# EAGLE library part 2-1761465-1 (library CONNECTORs)
36 Position Female Connector PCI Express™ Gold 0.039" (1.00mm) Black
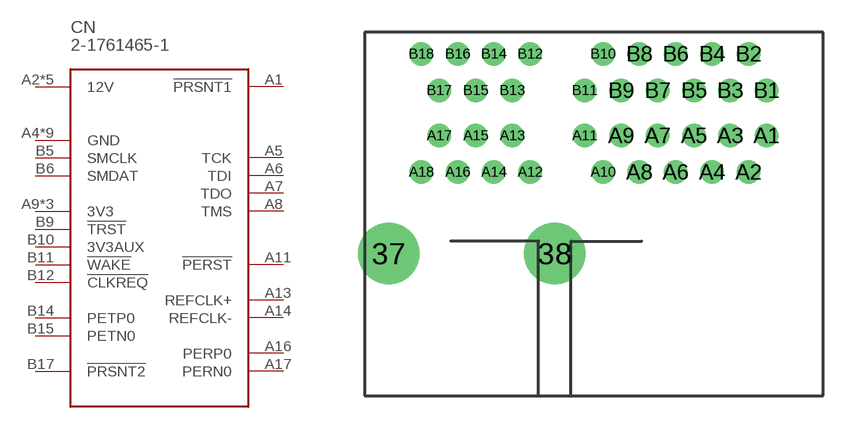
[diagram p74: symbol with the pads of CONN36_2-1761465-1_TEC; footprint CONN36_2-1761465-1_TEC]

Designator prefix CN

## 2-1761465-1 (DIGIKEY: A118393-ND; HEIGHT: 9.4; PRICE_PER: 6.58; VALUE: 2-1761465-1)  [CONN36_2-1761465-1_TEC]
A1  !PRSNT1  pas
A2  12V  pas
A3  12V  pas
A4  GND  pas
A5  TCK  pas
A6  TDI  pas
A7  TDO  pas
A8  TMS  pas
A9  3V3  pas
A10  3V3  pas
A11  !PERST  pas
A12  GND  pas
A13  REFCLK+  pas
A14  REFCLK-  pas
A15  GND  pas
A16  PERP0  pas
A17  PERN0  pas
A18  GND  pas
B1  12V  pas
B2  12V  pas
B3  12V  pas
B4  GND  pas
B5  SMCLK  pas
B6  SMDAT  pas
B7  GND  pas
B8  3V3  pas
B9  !TRST  pas
B10  3V3AUX  pas
B11  !WAKE  pas
B12  !CLKREQ  pas
B13  GND  pas
B14  PETP0  pas
B15  PETN0  pas
B16  GND  pas
B17  !PRSNT2  pas
B18  GND  pas

## Footprint CONN36_2-1761465-1_TEC (pad centres in mm)
drill 2.362 pad 2.362: 37 -11.303,-2.184; 38 -2.159,-2.184
drill 0.787 pad 1.295: A1 9.5,4.318; A2 8.509,2.311; A3 7.493,4.318; A4 6.502,2.311; A5 5.512,4.318; A6 4.496,2.311; A7 3.505,4.318; A8 2.489,2.311; A9 1.499,4.318; A10 0.508,2.311; A11 -0.508,4.318; A12 -3.505,2.311; A13 -4.496,4.318; A14 -5.512,2.311; A15 -6.502,4.318; A16 -7.493,2.311; A17 -8.509,4.318; A18 -9.5,2.311; B1 9.5,6.807; B2 8.509,8.814; B3 7.493,6.807; B4 6.502,8.814; B5 5.512,6.807; B6 4.496,8.814; B7 3.505,6.807; B8 2.489,8.814; B9 1.499,6.807; B10 0.508,8.814; B11 -0.508,6.807; B12 -3.505,8.814; B13 -4.496,6.807; B14 -5.512,8.814; B15 -6.502,6.807; B16 -7.493,8.814; B17 -8.509,6.807; B18 -9.5,8.814